# Altium footprint library KDZLVTF Family.PcbLib: 1 footprints
Each footprint in its own frame and in the unit in brackets; x right, y up, seen from the top. Pads: shape width x height; smd on the part's side, far side on the other; paste and mask are expansions set on the pad; w line width, h text height; cw(c..) or ccw(c..) is an arc to the next point about the centre after c.
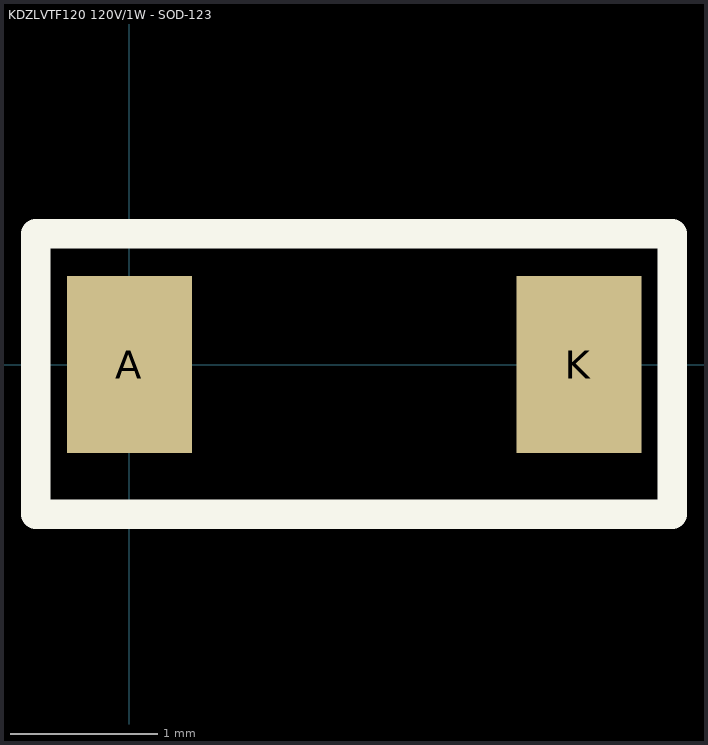
[diagram p0: the footprint, top view; thin cyan lines are the x and y axes]

## KDZLVTF120 120V/1W - SOD-123 [mm] "Zener Diode 120V 1W  Surface Mount SOD-123FL"
pads (2):
  rect 0.85x1.2 smd: A(0,0) K(3.05,0)
Top Overlay:
  lines w0.2: -0.635,-1.016 -0.635,0.889 3.683,0.889 3.683,-1.016 -0.635,-1.016
3D body "SOD123.step": height 1.27, standoff 0, extent -0.32,-0.81 3.38,0.79